# Altium schematic symbol library 74LCX125M Quad Buffer.SchLib: 1 symbol
Pins are listed as number, name and electrical type; pins without a type are passive.

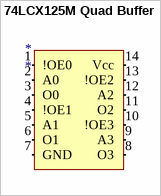
[diagram p0: symbol 74LCX125M Quad Buffer]

## 74LCX125M Quad Buffer
designator *
Low Voltage Quad Buffer with 5V Tolerant Inputs and Outputs
pins: 1 !OE0 (in), 2 A0 (in), 3 O0 (in), 4 !OE1 (in), 5 A1 (in), 6 O1 (in), 7 GND (in), 8 O3 (in), 9 A3 (in), 10 !OE3 (in), 11 O2 (in), 12 A2 (in), 13 !OE2 (in), 14 Vcc (in)